# EAGLE library part GAL (library 362 parts)
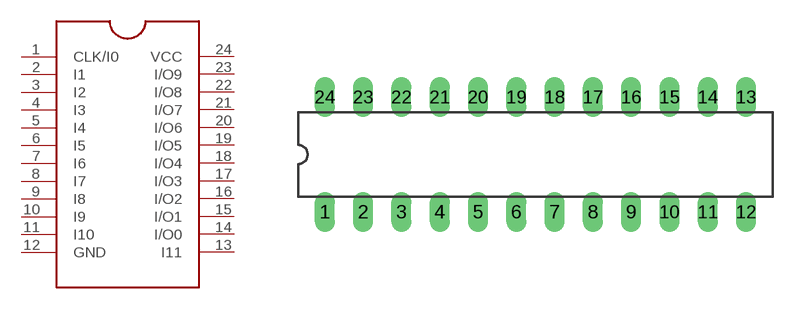
[diagram p1: symbol with the pads of DIL20; footprint DIL20]

Designator prefix GAL

## GAL  [DIL20]
1  CLK/I0
2  I1
3  I2
4  I3
5  I4
6  I5
7  I6
8  I7
9  I8
10  I9
11  I10
12  GND
13  I11
14  I/O0
15  I/O1
16  I/O2
17  I/O3
18  I/O4
19  I/O5
20  I/O6
21  I/O7
22  I/O8
23  I/O9
24  VCC

## Footprint DIL20 (pad centres in mm)
Dual In Line
drill 0.813 long: 1 -11.43,-3.81; 2 -8.89,-3.81; 3 -6.35,-3.81; 4 -3.81,-3.81; 5 -1.27,-3.81; 6 1.27,-3.81; 7 3.81,-3.81; 8 6.35,-3.81; 9 8.89,-3.81; 10 11.43,-3.81; 11 13.97,-3.81; 12 16.51,-3.81; 13 16.51,3.81; 14 13.97,3.81; 15 11.43,3.81; 16 8.89,3.81; 17 6.35,3.81; 18 3.81,3.81; 19 1.27,3.81; 20 -1.27,3.81; 21 -3.81,3.81; 22 -6.35,3.81; 23 -8.89,3.81; 24 -11.43,3.81